# EAGLE library part TEENSY_3.5 (library LM555-SHAYAN-NOORANI)
Teensy 3.5 Datasheet <https://www.pjrc.com/store/teensy35.html> Requires ordering of: 2: 24 pin, 0.1" pitch female headers 1: 2 pin, 0.1" pitch female headers
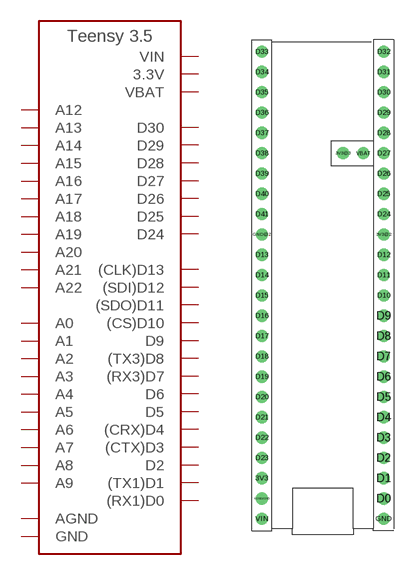
[diagram p11: symbol with the pads of TEENSY_LONG_EXT; footprint TEENSY_LONG_EXT]

Designator prefix A

## TEENSY_3.5 (TEENSY: 3.5)  [TEENSY_LONG_EXT]
3V3  3.3V  pwr
3V3@2  3.3V  pwr
3V3@3  3.3V  pwr
AGND/GND  AGND  pwr
D0  (RX1)D0
D1  (TX1)D1
D2  D2
D3  (CTX)D3
D4  (CRX)D4
D5  D5
D6  D6
D7  (RX3)D7
D8  (TX3)D8
D9  D9
D10  (CS)D10
D11  (SDO)D11
D12  (SDI)D12
D13  (CLK)D13
D14  A0
D15  A1
D16  A2
D17  A3
D18  A4
D19  A5
D20  A6
D21  A7
D22  A8
D23  A9
D24  D24
D25  D25
D26  D26
D27  D27
D28  D28
D29  D29
D30  D30
D31  A12
D32  A13
D33  A14
D34  A15
D35  A16
D36  A17
D37  A18
D38  A19
D39  A20
D40  A21
D41  A22
GND  GND  pwr
GND@2  GND  pwr
VBAT  VBAT  pwr
VIN  VIN  pwr

## Footprint TEENSY_LONG_EXT (pad centres in mm)
Teensy 3.5/4.1 Footprint Extended Teensy 3.5 <https://www.pjrc.com/store/teensy35.html> Teensy 4.1 <https://www.pjrc.com/store/teensy41.html> Headers <https://media.digikey.com/pdf/Data%20Sheets/Sullins%20PDFs/Female_Headers.100_DS.pdf>
drill 1.016: 3V3 0,5.08; 3V3@2 15.24,35.56; 3V3@3 10.16,45.72; AGND/GND 0,2.54; D0 15.24,2.54; D1 15.24,5.08; D2 15.24,7.62; D3 15.24,10.16; D4 15.24,12.7; D5 15.24,15.24; D6 15.24,17.78; D7 15.24,20.32; D8 15.24,22.86; D9 15.24,25.4; D10 15.24,27.94; D11 15.24,30.48; D12 15.24,33.02; D13 0,33.02; D14 0,30.48; D15 0,27.94; D16 0,25.4; D17 0,22.86; D18 0,20.32; D19 0,17.78; D20 0,15.24; D21 0,12.7; D22 0,10.16; D23 0,7.62; D24 15.24,38.1; D25 15.24,40.64; D26 15.24,43.18; D27 15.24,45.72; D28 15.24,48.26; D29 15.24,50.8; D30 15.24,53.34; D31 15.24,55.88; D32 15.24,58.42; D33 0,58.42; D34 0,55.88; D35 0,53.34; D36 0,50.8; D37 0,48.26; D38 0,45.72; D39 0,43.18; D40 0,40.64; D41 0,38.1; GND 15.24,0; GND@2 0,35.56; VBAT 12.7,45.72; VIN 0,0